# EAGLE library part TPS613771RYHR (library TPS613771RYHR)
Switching Voltage Regulators FINISH GOODS FOR TPS613771 Source: Datasheet <https://www.ti.com/lit/ds/symlink/tps61377.pdf>
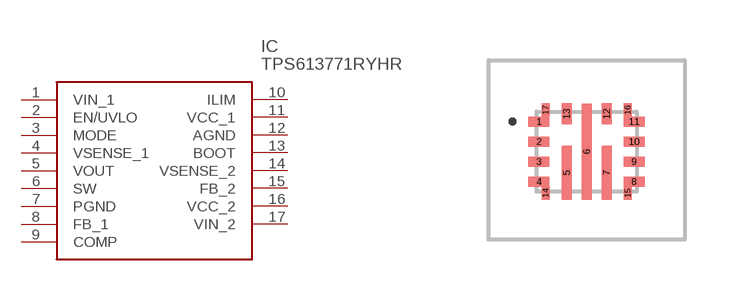
[diagram p0: symbol with the pads of TPS61376RYHR; footprint TPS61376RYHR]

Designator prefix IC

## TPS613771RYHR (Description: Switching Voltage Regulators FINISH GOODS FOR TPS613771; Height: 1mm; Manufacturer_Name: Texas Instruments; Manufacturer_Part_Number: TPS613771RYHR; Mouser_Part_Number: 595-TPS613771RYHR; Mouser_Price-Stock: https://www.mouser.co.uk/ProductDetail/Texas-Instruments/TPS613771RYHR?qs=Z%252BL2brAPG1K06hytL05E4w%3D%3D)  [TPS61376RYHR]
1  VIN_1
2  EN/UVLO
3  MODE
4  VSENSE_1
5  VOUT
6  SW
7  PGND
8  FB_1
9  COMP
10  ILIM
11  VCC_1
12  AGND
13  BOOT
14  VSENSE_2
15  FB_2
16  VCC_2
17  VIN_2

## Footprint TPS61376RYHR (pad centres in mm)
RYH0013A
smd 0.525 x 0.25: 1 -1.188,0.75; 2 -1.188,0.25; 3 -1.188,-0.25; 4 -1.188,-0.75; 8 1.188,-0.75; 9 1.188,-0.25; 10 1.188,0.25; 11 1.188,0.75
smd 0.25 x 1.35: 5 -0.5,-0.526; 7 0.5,-0.526
smd 0.25 x 2.4: 6 0,0
smd 0.25 x 0.525: 12 0.5,0.94; 13 -0.5,0.94
smd 0.2 x 0.325: 14 -1.025,-1.038; 15 1.025,-1.038; 16 1.025,1.038; 17 -1.025,1.038